# Altium footprint library proconn-sd.PcbLib: 1 footprints
Each footprint in its own frame and in the unit in brackets; x right, y up, seen from the top. Pads: shape width x height; smd on the part's side, far side on the other; paste and mask are expansions set on the pad; w line width, h text height; cw(c..) or ccw(c..) is an arc to the next point about the centre after c.
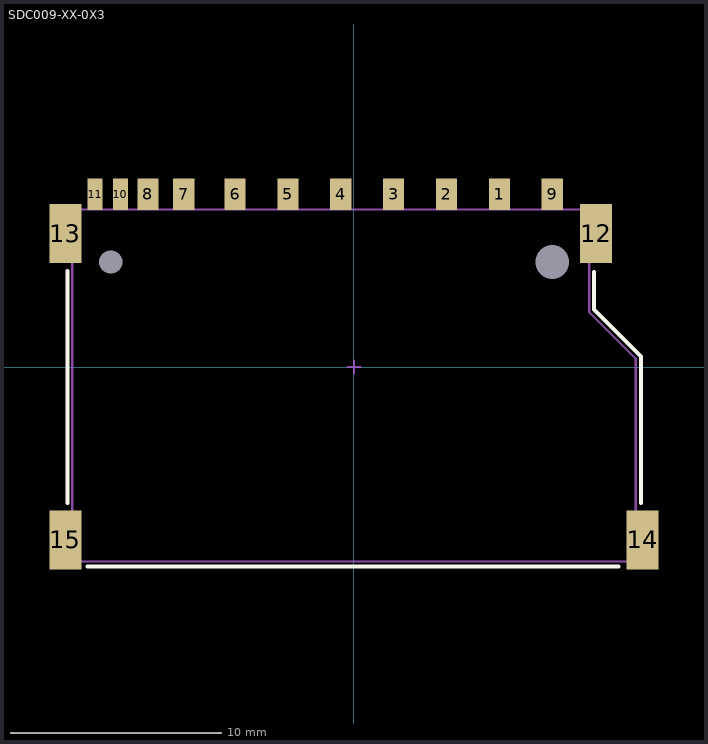
[diagram p0: the footprint, top view; thin cyan lines are the x and y axes]

## SDC009-XX-0X3 [mm]
height 2.8
pads (17):
  rect 1x1.5 smd: 1(6.875,8.175) 2(4.375,8.175) 3(1.875,8.175) 4(-0.625,8.175) 5(-3.125,8.175) 6(-5.625,8.175) 7(-8.05,8.175) 8(-9.75,8.175) 9(9.375,8.175)
  rect 0.7x1.5 smd: 10(-11.05,8.175) 11(-12.25,8.175)
  rect 1.5x2.8 smd: 12(11.45,6.325) 13(-13.65,6.325) 14(13.65,-8.175) 15(-13.65,-8.175)
  round 0 hole 1.1: HOLE1(-11.5,4.975)
  round 0 hole 1.6: HOLE1(9.375,4.975)
Top Overlay:
  lines w0.18: -13.55,-6.425 -13.55,4.55 ; -12.6,-9.425 12.525,-9.425 ; 11.35,4.5 11.35,2.725 13.575,0.5 13.575,-6.425
Mechanical 15:
  lines w0.1: -0.3,0 0.3,0 ; 0,-0.3 0,0.3 ; -13.325,-9.2 -13.325,7.45 11.125,7.45 11.125,2.6 13.325,0.4 13.325,-9.2 -13.325,-9.2
3D body: height 1, standoff 0, extent -13.25,-9.125 13.25,7.375
3D body: height 2.8, standoff 2.5, extent -13.25,-9.125 13.25,7.375
3D body: height 2.5, standoff 1, extent -13.25,-9.125 13.25,7.375